# Altium integrated library CY62126EV30LL.IntLib: 2 symbols
Pins are listed as number, name and electrical type; pins without a type are passive.

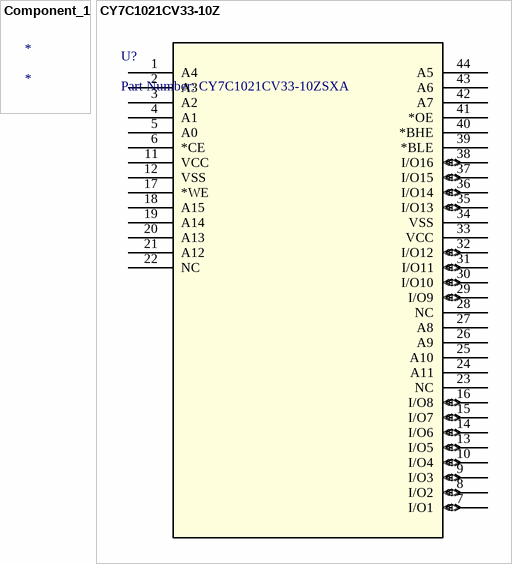
[diagram p0: symbols Component_1 to CY7C1021CV33-10Z]

## Component_1
designator *

## CY7C1021CV33-10Z
designator U?, comment Part Number: CY7C1021CV33-10ZSXA
No Description Available; Vendor: Cypress Semiconductor; Built_By: EMA_UL_Team; Manufacturer_Part_Number: CY7C1021CV33-10ZSXA; Copyright: Copyright (C) 2018 Accelerated Designs. All rights reserved; RefDes: RefDes; Type: DEV; Value: Value
footprint TSOP-44
pins: 1 A4, 2 A3, 3 A2, 4 A1, 5 A0, 6 *CE, 7 I/O1 (io), 8 I/O2 (io), 9 I/O3 (io), 10 I/O4 (io), 11 VCC (power), 12 VSS (power), 13 I/O5 (io), 14 I/O6 (io), 15 I/O7 (io), 16 I/O8 (io), 17 *WE, 18 A15, 19 A14, 20 A13, 21 A12, 22 NC, 23 NC, 24 A11, 25 A10, 26 A9, 27 A8, 28 NC, 29 I/O9 (io), 30 I/O10 (io), 31 I/O11 (io), 32 I/O12 (io), 33 VCC (power), 34 VSS (power), 35 I/O13 (io), 36 I/O14 (io), 37 I/O15 (io), 38 I/O16 (io), 39 *BLE, 40 *BHE, 41 *OE, 42 A7, 43 A6, 44 A5